# Altium schematic symbol library reg_linear_LDO_highPSRR.SchLib: 61 symbols
Pins are listed as number, name and electrical type; pins without a type are passive.

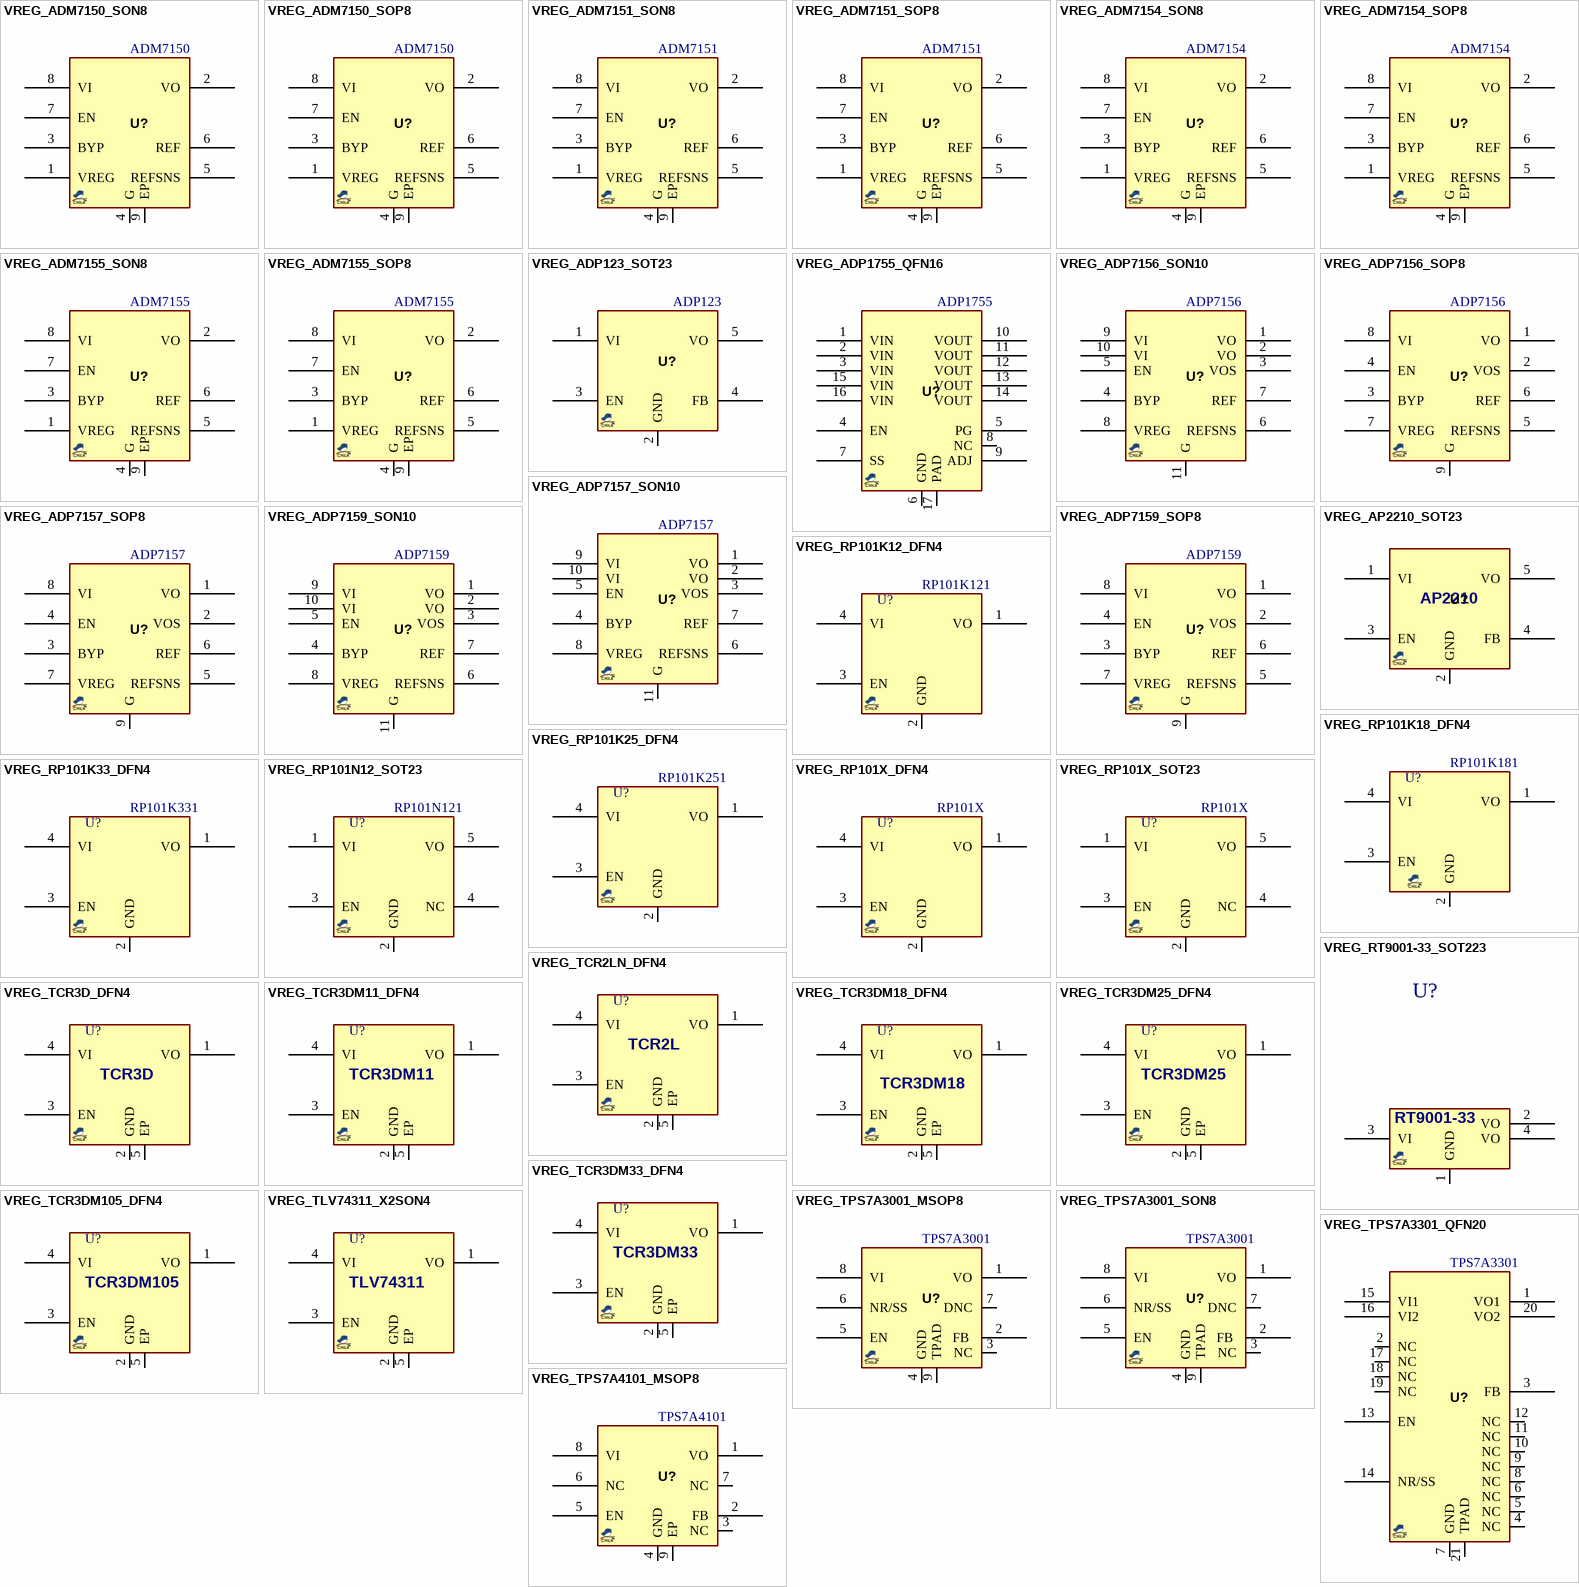
[diagram p0: symbols VREG_ADM7150_SON8 to VREG_TPS7A4101_MSOP8]

## VREG_ADM7150_SON8
designator U?, comment ADM7150
REG, Linear, 0.8A, 90dB PSRR, 1µV Noise, LFCSP-8; PARAM2: 4.5~16Vin, 1.8Vout fix; PARAM: 90dB PSRR, 1µV Noise, 0.8A; MANF: Analog Devices; MANF_P#: ADM7150ACPZ-1.8; MANF_P#2: ADM7150ACPZ-3.3; MANF_P#3: ADM7150ACPZ-4.5; MANF_P#4: ADM7150ACPZ-4.8; MANF_P#5: ADM7150ACPZ-5.0; VALUE: ADM7150
footprint SON50_8T_3X3 (WSON-8, DRG, 3X3mm 0.5mm pitch with Thermal pad)
pins: 1 VREG, 2 VO, 3 BYP, 4 G, 5 REFSNS, 6 REF, 7 EN, 8 VI, 9 EP

## VREG_ADM7150_SOP8
designator U?, comment ADM7150
REG, Linear, 0.8A, 90dB PSRR, 1µV Noise, SOP-8; PARAM2: 4.5~16Vin, 1.8Vout fix; PARAM: 90dB PSRR, 1µV Noise, 0.8A; MANF: Analog Devices; MANF_P#: ADM7150ARDZ-1.8; MANF_P#2: ADM7150ARDZ-2.8; MANF_P#3: ADM7150ARDZ-3.0; MANF_P#4: ADM7150ARDZ-3.3; MANF_P#5: ADM7150ARDZ-5.0; VALUE: ADM7150
footprint SO_8T (SOP-8, 5x3.9mm body 0.5mm pitch, DDA, SO PowerPAD)
pins: 1 VREG, 2 VO, 3 BYP, 4 G, 5 REFSNS, 6 REF, 7 EN, 8 VI, 9 EP

## VREG_ADM7151_SON8
designator U?, comment ADM7151
REG, Linear, 0.8A, 90dB PSRR, 1µV Noise, LFCSP-8; PARAM2: 4.5~16Vin, 1.5~5.1Vout; PARAM: 90dB PSRR, 1µV Noise, 0.8A; MANF: Analog Devices; MANF_P#: ADM7151ACPZ-04; PRICE: 8.4$; VALUE: ADM7151
footprint SON50_8T_3X3 (WSON-8, DRG, 3X3mm 0.5mm pitch with Thermal pad)
pins: 1 VREG, 2 VO, 3 BYP, 4 G, 5 REFSNS, 6 REF, 7 EN, 8 VI, 9 EP

## VREG_ADM7151_SOP8
designator U?, comment ADM7151
REG, Linear, 0.8A, 90dB PSRR, 1µV Noise, SOP-8; PARAM2: 4.5~16Vin, 1.5~5.1Vout; PARAM: 90dB PSRR, 1µV Noise, 0.8A; MANF: Analog Devices; MANF_P#: ADM7151ARDZ-04; PRICE: 8.4$; VALUE: ADM7151
footprint SO_8T (SOP-8, 5x3.9mm body 0.5mm pitch, DDA, SO PowerPAD)
pins: 1 VREG, 2 VO, 3 BYP, 4 G, 5 REFSNS, 6 REF, 7 EN, 8 VI, 9 EP

## VREG_ADM7154_SON8
designator U?, comment ADM7154
REG, Linear, 0.6A, 90dB PSRR, 1µV Noise, LFCSP-8; PARAM2: 2.3~5.5VIN, 1.2Vout fix; PARAM: 90dB PSRR, 1µV Noise, 0.6A; MANF: Analog Devices; MANF_P#: ADM7154ACPZ-1.2; MANF_P#2: ADM7154ACPZ-1.8; MANF_P#3: ADM7154ACPZ-2.5; MANF_P#4: ADM7154ACPZ-2.8; MANF_P#5: ADM7154ACPZ-3.0; MANF_P#6: ADM7154ACPZ-3.3; VALUE: ADM7154
footprint SON50_8T_3X3 (WSON-8, DRG, LFCSP_WD, 3X3mm 0.5mm pitch with Thermal pad)
pins: 1 VREG, 2 VO, 3 BYP, 4 G, 5 REFSNS, 6 REF, 7 EN, 8 VI, 9 EP

## VREG_ADM7154_SOP8
designator U?, comment ADM7154
REG, Linear, 0.6A, 90dB PSRR, 1µV Noise, SOP-8; PARAM2: 2.3~5.5VIN, 1.2Vout fix; PARAM: 90dB PSRR, 1µV Noise, 0.6A; MANF: Analog Devices; MANF_P#4: ADM7154ARDZ-2.8; MANF_P#2: ADM7154ARDZ-1.8; MANF_P#6: ADM7154ARDZ-3.3; MANF_P#3: ADM7154ARDZ-2.5; MANF_P#5: ADM7154ARDZ-3.0; MANF_P#: ADM7154ARDZ-1.2; VALUE: ADM7154
footprint SO_8T (SOP-8, 5x3.9mm body 0.5mm pitch, DDA, SO PowerPAD)
pins: 1 VREG, 2 VO, 3 BYP, 4 G, 5 REFSNS, 6 REF, 7 EN, 8 VI, 9 EP

## VREG_ADM7155_SON8
designator U?, comment ADM7155
REG, Linear, 0.6A, 90dB PSRR, 1µV Noise, LFCSP-8; PARAM2: 2.3~5.5VIN, 1.2~3.4VOUT; PARAM: 90dB PSRR, 1µV Noise, 0.6A; MANF: Analog Devices; MANF_P#: ADM7155ARDZ; VALUE: ADM7155
footprint SON50_8T_3X3 (WSON-8, DRG, LFCSP_WD, 3X3mm 0.5mm pitch with Thermal pad)
pins: 1 VREG, 2 VO, 3 BYP, 4 G, 5 REFSNS, 6 REF, 7 EN, 8 VI, 9 EP

## VREG_ADM7155_SOP8
designator U?, comment ADM7155
REG, Linear, 0.6A, 90dB PSRR, 1µV Noise, SOP-8; PARAM2: 2.3~5.5VIN, 1.2~3.4VOUT; PARAM: 90dB PSRR, 1µV Noise, 0.6A; MANF: Analog Devices; MANF_P#: ADM7155ARDZ; VALUE: ADM7155
footprint SO_8T (SOP-8, 5x3.9mm body 0.5mm pitch, DDA, SO PowerPAD)
pins: 1 VREG, 2 VO, 3 BYP, 4 G, 5 REFSNS, 6 REF, 7 EN, 8 VI, 9 EP

## VREG_ADP123_SOT23
designator U?, comment ADP123
REG, Linear, LDO0.085V, 0.3A, SOT23-5 SMD; PARAM2: 60dB PSRR@100KHz; MANF: AD; MANF_P#: ADP123AUJZ; PARAM: LDO0.085V, 0.3A; VALUE: ADP123
footprint SOT23_5 (SOT-23-5, SOT25, SOT-25, DBV(R-PDSO-G5), TSOT23-5, SC-74A, SOT23-5, S5-T (LINEAR), MO-178AA, MO-193AB(JEDEC), MF05A (NS), TSOP-6(ON), UJ-5 (AD))
pins: 1 VI, 2 GND, 3 EN, 4 FB, 5 VO

## VREG_ADP1755_QFN16
designator U?, comment ADP1755
REG, Linear, 1.2A, 65dB PSRR, 23µV Noise, LFCSP-16; PARAM2: 1.6~3.6Vin, 0.75~3.3Vout; PARAM: 65dBPSRR@1K, 23µV Noise, 1.2A; MANF: Analog Devices; MANF_P#: ADP1755ACPZ; PRICE: 2.7$; VALUE: ADP1755
footprint QFN65_16T (MO-220 VGGC, MO-220 WGGC-4(JEDEC), 4X4mm, 0.65mm)
pins: 1 VIN, 2 VIN, 3 VIN, 4 EN, 5 PG, 6 GND, 7 SS, 8 NC, 9 ADJ, 10 VOUT, 11 VOUT, 12 VOUT, 13 VOUT, 14 VOUT, 15 VIN, 16 VIN, 17 PAD

## VREG_ADP7156_SON10
designator U?, comment ADP7156
REG, Linear, 1.2A, 80dB PSRR, 1µV Noise, LFCSP-10; PARAM2: 2.3~5.5Vin, 1.2Vout fix; PARAM: 80dB PSRR, 1µV Noise, 1.2A; MANF: Analog Devices; MANF_P#: ADP7156ACPZ-1.2; MANF_P#3: ADP7156ACPZ-2.0; MANF_P#2: ADP7156ACPZ-1.8; MANF_P#4: ADP7156ACPZ-2.5; MANF_P#5: ADP7156ACPZ-2.8; MANF_P#6: ADP7156ACPZ-3.0; MANF_P#7: ADP7156ACPZ-3.3; VALUE: ADP7156
footprint SON50_10T_3X3 (DRC SON(TI), 10 TDFN (MAXIM), 3X3mm, Pitch: 0.5mm with thermal pad)
pins: 1 VO, 2 VO, 3 VOS, 4 BYP, 5 EN, 6 REFSNS, 7 REF, 8 VREG, 9 VI, 10 VI, 11 G

## VREG_ADP7156_SOP8
designator U?, comment ADP7156
REG, Linear, 1.2A, 80dB PSRR, 1µV Noise, SOP-8; PARAM2: 2.3~5.5Vin, 1.2Vout fix; PARAM: 80dB PSRR, 1µV Noise, 1.2A; MANF: Analog Devices; MANF_P#: ADP7156ARDZ-1.2; MANF_P#3: ADP7156ARDZ-2.0; MANF_P#2: ADP7156ARDZ-1.8; MANF_P#4: ADP7156ARDZ-2.5; MANF_P#5: ADP7156ARDZ-2.8; MANF_P#6: ADP7156ARDZ-3.0; MANF_P#7: ADP7156ARDZ-3.3; VALUE: ADP7156
footprint SO_8T (SOP-8, 5x3.9mm body 0.5mm pitch, DDA, SO PowerPAD)
pins: 1 VO, 2 VOS, 3 BYP, 4 EN, 5 REFSNS, 6 REF, 7 VREG, 8 VI, 9 G

## VREG_ADP7157_SON10
designator U?, comment ADP7157
REG, Linear, 1.2A, 80dB PSRR, 1µV Noise, LFCSP-10; PARAM2: 2.3~5.5Vin, 1.2~3.3Vout; PARAM: 80dB PSRR, 1µV Noise, 1.2A; MANF: Analog Devices; MANF_P#: ADP7157ACPZ; PRICE: 3.8$; VALUE: ADP7157
footprint SON50_10T_3X3 (DRC SON(TI), 10 TDFN (MAXIM), 3X3mm, Pitch: 0.5mm with thermal pad)
pins: 1 VO, 2 VO, 3 VOS, 4 BYP, 5 EN, 6 REFSNS, 7 REF, 8 VREG, 9 VI, 10 VI, 11 G

## VREG_ADP7157_SOP8
designator U?, comment ADP7157
REG, Linear, 1.2A, 80dB PSRR, 1µV Noise, SOP-8; PARAM2: 2.3~5.5Vin, 1.2~3.3Vout; PARAM: 80dB PSRR, 1µV Noise, 1.2A; MANF: Analog Devices; MANF_P#: ADP7157ARDZ; PRICE: 7$; VALUE: ADP7157
footprint SO_8T (SOP-8, 5x3.9mm body 0.5mm pitch, DDA, SO PowerPAD)
pins: 1 VO, 2 VOS, 3 BYP, 4 EN, 5 REFSNS, 6 REF, 7 VREG, 8 VI, 9 G

## VREG_ADP7159_SON10
designator U?, comment ADP7159
REG, Linear, 2A, LDO0.2V, 68dB PSRR, 1µV Noise, LFCSP-10; PARAM2: 2.3~5.5Vin, 1.2~3.3Vout; PARAM: 68dB PSRR 1K~100KHz, 1µV Noise, 2A; MANF: Analog Devices; MANF_P#: ADP7159ACPZ; PRICE: 3.8$; VALUE: ADP7159
footprint SON50_10T_3X3 (DRC SON(TI), 10 TDFN (MAXIM), 3X3mm, Pitch: 0.5mm with thermal pad)
pins: 1 VO, 2 VO, 3 VOS, 4 BYP, 5 EN, 6 REFSNS, 7 REF, 8 VREG, 9 VI, 10 VI, 11 G

## VREG_ADP7159_SOP8
designator U?, comment ADP7159
REG, Linear, 2A, LDO0.2V, 68dB PSRR, 1µV Noise, SOP-8; PARAM2: 2.3~5.5Vin, 1.2~3.3Vout; PARAM: 80dB PSRR, 1µV Noise, 2A; MANF: Analog Devices; MANF_P#: ADP7159ARDZ; PRICE: 7$; VALUE: ADP7159
footprint SO_8T (SOP-8, 5x3.9mm body 0.5mm pitch, DDA, SO PowerPAD)
pins: 1 VO, 2 VOS, 3 BYP, 4 EN, 5 REFSNS, 6 REF, 7 VREG, 8 VI, 9 G

## VREG_AP2210_SOT23
designator U?, comment AP2210  (value not drawn)
REG, Linear, LDO0.25V, 0.3A, SOT23-5 SMD; PARAM2: 2.5~13.2VIN, 60dB PSRR@1KHz; PARAM: LDO0.2V, 0.3A; MANF: DIODES; MANF_P#: AP2210K-ADJTRG1; PRICE: 0.47$; VALUE: AP2210
footprint SOT23_5 (SOT-23-5, SOT25, SOT-25, DBV(R-PDSO-G5), TSOT23-5, SC-74A, SOT23-5, S5-T (LINEAR), MO-178AA, MO-193AB(JEDEC), MF05A (NS), TSOP-6(ON), UJ-5 (AD))
pins: 1 VI, 2 GND, 3 EN, 4 FB, 5 VO

## VREG_RP101K12_DFN4
designator U?, comment RP101K121
REG, Linear, LDO0.13V, Fixed, 300mA, VIN1.7~5.25V, VOUT1.2V,DFN(PLP)1612-4; MANF: RICOH; MANF_P#: RP101K121, RP101K122; PARAM2: 75dB PSRR; PARAM: LDO0.13V, Fixed 1.2V, 300mA; PRICE: $0.8; VALUE: RP101K121
footprint SON65_4T_1216 (DFN4-1216-0.65, DFN(PLP)1612-4, 1.2X1.6mm, 0.65mm pitch)
pins: 1 VO, 2 GND, 3 EN, 4 VI

## VREG_RP101K18_DFN4
designator U?, comment RP101K181
REG, Linear, LDO0.13V, Fixed, 300mA, VIN1.7~5.25V, VOUT1.8V,DFN(PLP)1612-4; MANF: RICOH; MANF_P#: RP101K181D, RP101K182D; PARAM2: 75dB PSRR; PARAM: LDO0.13V, Fixed 1.8V, 300mA; PRICE: $0.8; VALUE: RP101K181
footprint SON65_4T_1216 (DFN4-1216-0.65, DFN(PLP)1612-4, 1.2X1.6mm, 0.65mm pitch)
pins: 1 VO, 2 GND, 3 EN, 4 VI

## VREG_RP101K25_DFN4
designator U?, comment RP101K251
REG, Linear, LDO0.13V, Fixed, 300mA, VIN1.7~5.25V, VOUT1.8V,DFN(PLP)1612-4; MANF: RICOH; MANF_P#: RP101K251, RP101K252; PARAM2: 75dB PSRR; PARAM: LDO0.13V, Fixed 1.8V, 300mA; PRICE: $0.8; VALUE: RP101K251
footprint SON65_4T_1216 (DFN4-1216-0.65, DFN(PLP)1612-4, 1.2X1.6mm, 0.65mm pitch)
pins: 1 VO, 2 GND, 3 EN, 4 VI

## VREG_RP101K33_DFN4
designator U?, comment RP101K331
REG, Linear, LDO0.13V, Fixed, 300mA, VIN1.7~5.25V, VOUT1.8V,DFN(PLP)1612-4; MANF: RICOH; MANF_P#: RP101K331, RP101K332; PARAM2: 75dB PSRR; PARAM: LDO0.13V, Fixed 1.8V, 300mA; PRICE: $0.8; VALUE: RP101K331
footprint SON65_4T_1216 (DFN4-1216-0.65, DFN(PLP)1612-4, 1.2X1.6mm, 0.65mm pitch)
pins: 1 VO, 2 GND, 3 EN, 4 VI

## VREG_RP101N12_SOT23
designator U?, comment RP101N121
REG, Linear, LDO0.13V, Fixed, 300mA, VIN1.7~5.25V, VOUT1.2~3.3V,DFN(PLP)1612-4; MANF: RICOH; PARAM: LDO0.13V, Fixed1.2V, 300mA; MANF_P#: RP101N121; VALUE: RP101N121
footprint SOT23_5 (SOT-23-5, SOT25, SOT-25, DBV(R-PDSO-G5), TSOT23-5, SC-74A, SOT23-5, S5-T (LINEAR), MO-178AA, MO-193AB(JEDEC), MF05A (NS), TSOP-6(ON), UJ-5 (AD))
pins: 1 VI, 2 GND, 3 EN, 4 NC, 5 VO

## VREG_RP101X_DFN4
designator U?, comment RP101X
REG, Linear, LDO0.13V, Fixed, 300mA, VIN1.7~5.25V, VOUT1.2~3.3V,DFN(PLP)1612-4; MANF: RICOH; PARAM2: 75dB PSRR; MANF_P#: RP101X; PARAM: LDO0.13V, Fixed, 300mA; VALUE: RP101X
footprint SON65_4T_1216 (DFN4-1216-0.65, DFN(PLP)1612-4, 1.2X1.6mm, 0.65mm pitch)
pins: 1 VO, 2 GND, 3 EN, 4 VI

## VREG_RP101X_SOT23
designator U?, comment RP101X
REG, Linear, LDO0.13V, Fixed, 300mA, VIN1.7~5.25V, VOUT1.2~3.3V,DFN(PLP)1612-4; MANF: RICOH; MANF_P#: RP101X; PARAM: LDO0.13V, Fixed, 300mA; VALUE: RP101X
footprint SOT23_5 (SOT-23-5, SOT25, SOT-25, DBV(R-PDSO-G5), TSOT23-5, SC-74A, SOT23-5, S5-T (LINEAR), MO-178AA, MO-193AB(JEDEC), MF05A (NS), TSOP-6(ON), UJ-5 (AD))
pins: 1 VI, 2 GND, 3 EN, 4 NC, 5 VO

## VREG_RT9001-33_SOT223
designator U?, comment RT9001-33  (value not drawn)
REG, Linear, LDO0.58V, 0.6A, 3.3V FIXED, SOT223; MANF_P#: RT9001-33GG; MANF: RICHTEK; PARAM2: LDO0.58V, 3~5.5VIN, 3.3Vout; PARAM: 0.6A, -55dBpsrr@1KHz, -40~125°C; PRICE: 1.7t@Lion; DESC: http://www.lionelectronic.ir/content/rt9001-33gg; VALUE: RT9001-33
footprint SOT223_4 (SOT223, 4-Leads, Body 6.5x3.5mm, Pitch 2.30mm)
pins: 1 GND, 2 VO, 3 VI, 4 VO

## VREG_TCR2LN_DFN4
designator U?, comment TCR2L  (value not drawn)
REG, Linear, LDO0.25V, Fixed, 150mA, VIN2~5.25V, VOUT0.8~3.6V,DFN4 0.8X0.8mm; MANF: TOSHIBA; MANF_P#: TCR2LN10, TCR2LN12, TCR2LN15, TCR2LN18, TCR2LN25, TCR2LN33; PARAM2: 70dB PSRR; PARAM: LDO0.25V, Fixed, 150mA; PRICE: $0.3; VALUE: TCR2L
footprint SON50_4T_0808 (SDFN-4, 0.8X0.8mm, 0.48mm pitch)
pins: 1 VO, 2 GND, 3 EN, 4 VI, 5 EP

## VREG_TCR3D_DFN4
designator U?, comment TCR3D  (value not drawn)
REG, Linear, LDO0.3V, Fixed, 300mA, VIN2~5.25V, VOUT1~4.5V,DFN4 1X1mm; MANF: TOSHIBA; MANF_P#: TCR3DM10, TCR3DM105, TCR3DM12, TCR3DM15, TCR3DM18, TCR3DM25, TCR3DM33; PARAM2: 70dB PSRR; PARAM: LDO0.2V, Fixed, 300mA; PRICE: $0.3; VALUE: TCR3D
footprint SON65_4T_1010 (DFN(PLP)1010-4, DFN1010C-4, 1.0X1.0mm, 0.65mm pitch)
pins: 1 VO, 2 GND, 3 EN, 4 VI, 5 EP

## VREG_TCR3DM11_DFN4
designator U?, comment TCR3DM11  (value not drawn)
REG, Linear, LDO0.3V, Fixed, 300mA, VIN2~5.25V, VOUT1~4.5V,DFN4 1X1mm; MANF: TOSHIBA; MANF_P#: TCR3DM11,LF; PARAM2: LDO0.2V, Fixed1.1V; PARAM: 300mA, 70dB PSRR, -40~85oC; PRICE: $0.3; VALUE: TCR3DM11
footprint SON65_4T_1010 (DFN(PLP)1010-4, DFN1010C-4, 1.0X1.0mm, 0.65mm pitch)
pins: 1 VO, 2 GND, 3 EN, 4 VI, 5 EP

## VREG_TCR3DM18_DFN4
designator U?, comment TCR3DM18  (value not drawn)
REG, Linear, LDO0.3V, Fixed, 300mA, VIN2~5.25V, VOUT1.8V,DFN4 1X1mm; MANF: TOSHIBA; PARAM2: 70dB PSRR; PARAM: LDO0.2V, Fixed, 300mA; MANF_P#: TCR3DM18; PRICE: $0.3; VALUE: TCR3DM18
footprint SON65_4T_1010 (DFN(PLP)1010-4, DFN1010C-4, 1.0X1.0mm, 0.65mm pitch)
pins: 1 VO, 2 GND, 3 EN, 4 VI, 5 EP

## VREG_TCR3DM25_DFN4
designator U?, comment TCR3DM25  (value not drawn)
REG, Linear, LDO0.3V, Fixed, 300mA, VIN2~5.25V, VOUT1~4.5V,DFN4 1X1mm; MANF: TOSHIBA; MANF_P#: TCR3DM25,LF; PARAM2: LDO0.2V, Fixed2.5V; PARAM: 300mA, 70dB PSRR, -40~85oC; PRICE: $0.3; VALUE: TCR3DM25
footprint SON65_4T_1010 (DFN(PLP)1010-4, DFN1010C-4, 1.0X1.0mm, 0.65mm pitch)
pins: 1 VO, 2 GND, 3 EN, 4 VI, 5 EP

## VREG_TCR3DM33_DFN4
designator U?, comment TCR3DM33  (value not drawn)
REG, Linear, LDO0.3V, Fixed, 300mA, VIN2~5.25V, VOUT1~4.5V,DFN4 1X1mm; MANF: TOSHIBA; PARAM2: LDO0.2V, Fixed3.3V; PARAM: 300mA, 70dB PSRR, -40~85oC; MANF_P#: TCR3DM33; PRICE: $0.3; VALUE: TCR3DM33
footprint SON65_4T_1010 (DFN(PLP)1010-4, DFN1010C-4, 1.0X1.0mm, 0.65mm pitch)
pins: 1 VO, 2 GND, 3 EN, 4 VI, 5 EP

## VREG_TCR3DM105_DFN4
designator U?, comment TCR3DM105  (value not drawn)
REG, Linear, LDO0.3V, Fixed, 300mA, VIN2~5.25V, VOUT1~4.5V,DFN4 1X1mm; MANF: TOSHIBA; MANF_P#: TCR3DM105,LF; PARAM2: LDO0.2V, Fixed1.05V; PARAM: 300mA, 70dB PSRR, -40~85oC; PRICE: $0.3; VALUE: TCR3DM105
footprint SON65_4T_1010 (DFN(PLP)1010-4, DFN1010C-4, 1.0X1.0mm, 0.65mm pitch)
pins: 1 VO, 2 GND, 3 EN, 4 VI, 5 EP

## VREG_TLV74311_X2SON4
designator U?, comment TLV74311  (value not drawn)
REG, Linear, LDO0.12V, Fixed, 300mA, VIN1.4~5.5V, VOUT1~5.5V,X2SON4 1X1mm; MANF: Texas Instruments; MANF_P#: TLV74311PDQN; PARAM2: 1.4~5.5Vin, LDO0.12V, Fixed1.1V; PARAM: 300mA, 50dB PSRR, -40~125°C; PRICE: $0.45; VALUE: TLV74311
footprint SON65_4T_1010 (DFN(PLP)1010-4, DFN1010C-4, 1.0X1.0mm, 0.65mm pitch)
pins: 1 VO, 2 GND, 3 EN, 4 VI, 5 EP

## VREG_TPS7A3001_MSOP8
designator U?, comment TPS7A3001
REG, Linear, Negative LDO0.21V, 0.2A, -3~-35VIN, HVSSOP-8; PARAM: LDO0.21V, 0.2A, -1.18~-33V; MANF: Texas Instruments; MANF_P#: TPS7A3001DGN; PARAM2: -3~-35VIN; PRICE: 3.5$; VALUE: TPS7A3001
footprint SOG65_8T_3
pins: 1 VO, 2 FB , 3 NC, 4 GND , 5 EN , 6 NR/SS , 7 DNC, 8 VI, 9 TPAD

## VREG_TPS7A3001_SON8
designator U?, comment TPS7A3001
REG, Linear, Negative LDO0.21V, 0.2A, -3~-35VIN, SON-8; PARAM: LDO0.21V, 0.2A, -1.18~-33V; MANF: Texas Instruments; MANF_P#: TPS7A3001DRB; PARAM2: -3~-35VIN; PRICE: 3.5$; VALUE: TPS7A3001
footprint SON65_8T_3X3 (DRB PVSON8 (TI), 3.00x3.00mm, Pitch 0.65mm)
pins: 1 VO, 2 FB , 3 NC, 4 GND , 5 EN , 6 NR/SS , 7 DNC, 8 VI, 9 TPAD

## VREG_TPS7A3301_QFN20
designator U?, comment TPS7A3301
REG, Linear, Negative LDO0.3V RF, 1A, -3~-36VIN, QFN-20; PARAM: LDO0.3V, 1A, -1.2~-33VOUT; MANF: Texas Instruments; MANF_P#: TPS7A3301RGW; PARAM2: -3~-36VIN; PRICE: 6$; VALUE: TPS7A3301
footprint QFN65_20T (QFN, 20-Leads, Body 5.00x5.00mm, Pitch 0.65mm, Thermal Pad 3.15x3.15mm, MO-220(JEDEC), RGW/S-PVQFN-N20 (TI))
pins: 1 VO1, 2 NC, 3 FB, 4 NC, 5 NC, 6 NC, 7 GND, 8 NC, 9 NC, 10 NC, 11 NC, 12 NC, 13 EN, 14 NR/SS, 15 VI1, 16 VI2, 17 NC, 18 NC, 19 NC, 20 VO2, 21 TPAD

## VREG_TPS7A4101_MSOP8
designator U?, comment TPS7A4101
REG, Linear, LDO0.3V, 0.05A, 7~50VIN, MSOP-8; PARAM2: 7~50VIN, -40~125°C; MANF: Texas Instruments; MANF_P#: TPS7A4101DGN; PARAM: LDO0.3V, 0.05A; PRICE: 55t@lion.ir; VALUE: TPS7A4101
footprint SOG65_8T_3
pins: 1 VO, 2 FB, 3 NC, 4 GND, 5 EN, 6 NC, 7 NC, 8 VI, 9 EP

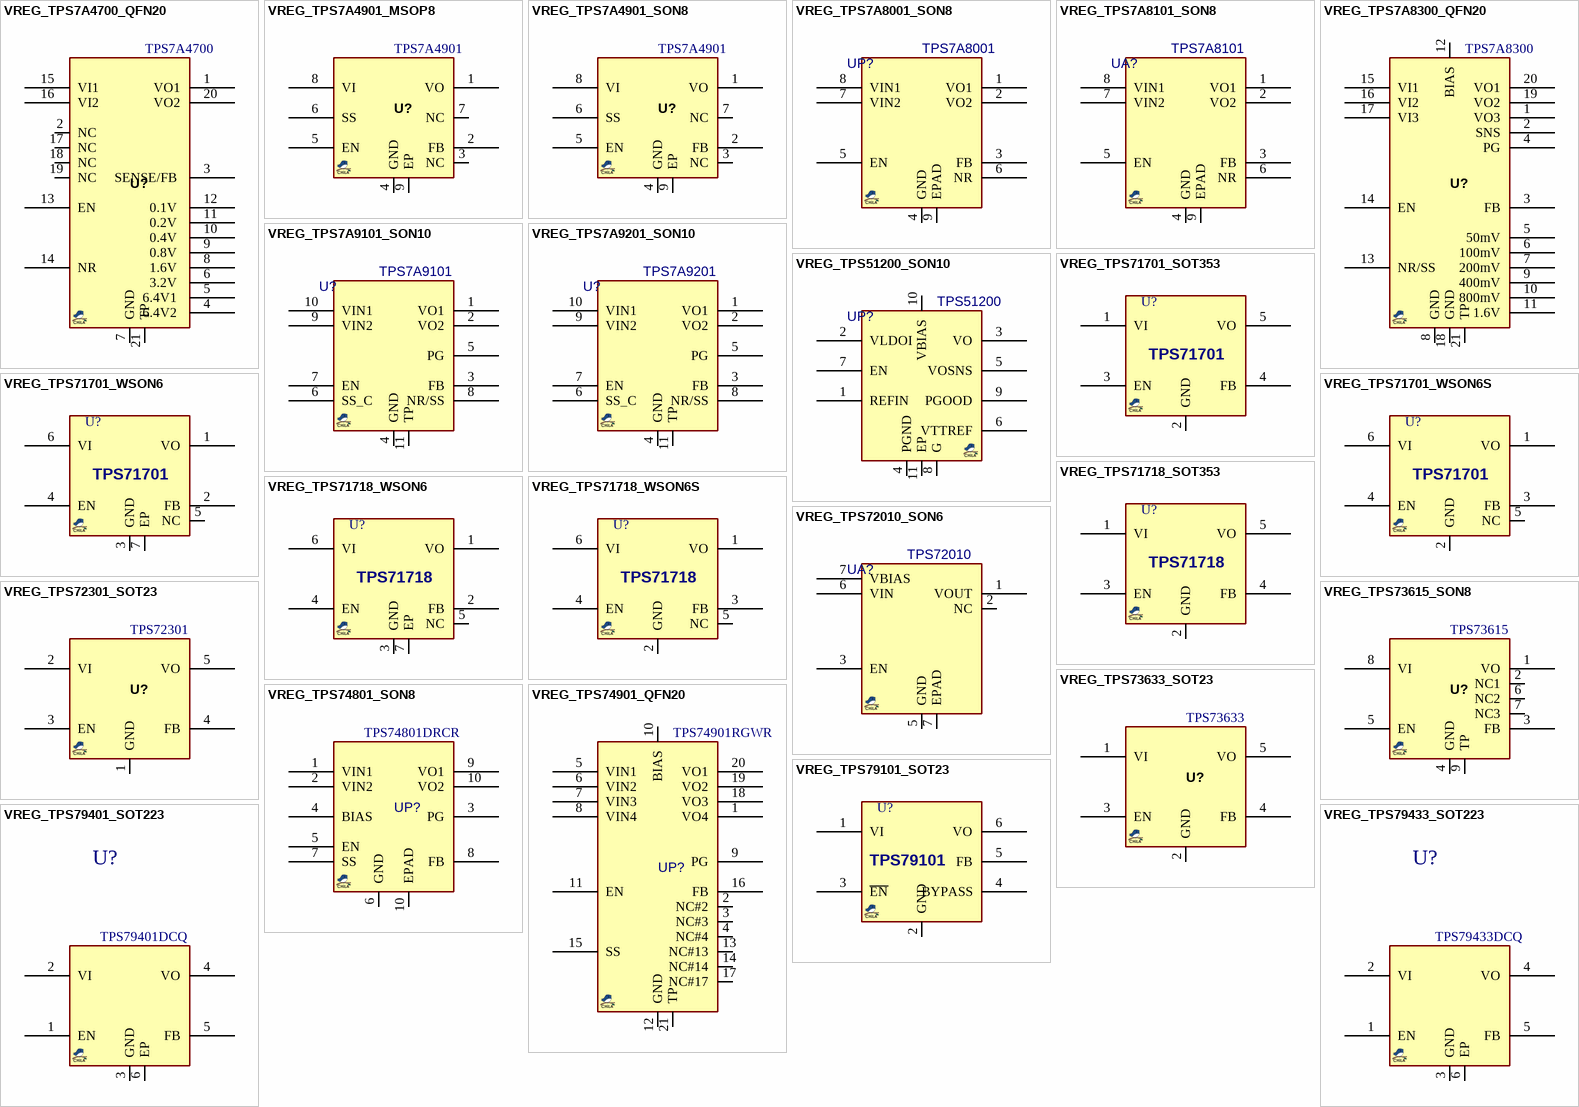
[diagram p1: symbols VREG_TPS7A4700_QFN20 to VREG_TPS79433_SOT223]

## VREG_TPS7A4700_QFN20
designator U?, comment TPS7A4700
REG, Linear, LDO0.3V RF, 1A, QFN-20; PARAM2: 3~36VIN; PARAM: LDO0.3V, 1A, 1.4~20.5VOUT; MANF: Texas Instruments; MANF_P#: TPS7A4700RGW; PRICE: 5$; VALUE: TPS7A4700
footprint QFN65_20T (QFN, 20-Leads, Body 5.00x5.00mm, Pitch 0.65mm, Thermal Pad 3.15x3.15mm, MO-220(JEDEC), RGW/S-PVQFN-N20 (TI))
pins: 1 VO1, 2 NC , 3 SENSE/FB , 4 6.4V2 , 5 6.4V1 , 6 3.2V , 7 GND , 8 1.6V , 9 0.8V , 10 0.4V , 11 0.2V , 12 0.1V , 13 EN , 14 NR , 15 VI1, 16 VI2, 17 NC , 18 NC , 19 NC , 20 VO2, 21 TP

## VREG_TPS7A4901_MSOP8
designator U?, comment TPS7A4901
REG, Linear, LDO0.3V, 0.15A, 3~36VIN, MSOP-8; PARAM2: 3~36VIN, -40~125°C; MANF: Texas Instruments; MANF_P#: TPS7A4901DGN; PARAM: LDO0.3V, 0.15A; PRICE: 55t@lion.ir; VALUE: TPS7A4901
footprint SOG65_8T_3
pins: 1 VO, 2 FB, 3 NC, 4 GND, 5 EN, 6 SS, 7 NC, 8 VI, 9 EP

## VREG_TPS7A4901_SON8
designator U?, comment TPS7A4901
REG, Linear, LDO0.3V, 0.15A, 3~36VIN, MSOP-8; PARAM2: 3~36VIN, -40~125°C; MANF: Texas Instruments; MANF_P#: TPS7A4901DRB; PARAM: LDO0.3V, 0.15A; VALUE: TPS7A4901
footprint SON65_8T_3X3 (DRB PVSON8 (TI), 3.00x3.00mm, Pitch 0.65mm)
pins: 1 VO, 2 FB, 3 NC, 4 GND, 5 EN, 6 SS, 7 NC, 8 VI, 9 EP

## VREG_TPS7A8001_SON8
designator UP?, comment TPS7A8001
REG, Linear, LDO0.17V, 1A, SON-8; MANF: TI; DESC: Voltage Regulator, Linear, LDO0.17V, 1A, SON-8; MANF_P#: TPS7A8101DRBR; ASSEMBLY: ASSEMBLY; PARAM: LDO0.17V, 1A; PRICE: 3.2$; VALUE: TPS7A8001
footprint SON65_8T_3X3 (DRB PVSON8 (TI), 3.00x3.00mm, Pitch 0.65mm)
pins: 1 VO1 (power), 2 VO2 (power), 3 FB, 4 GND (power), 5 EN, 6 NR, 7 VIN2 (power), 8 VIN1 (power), 9 EPAD (power)

## VREG_TPS7A8101_SON8
designator UA?, comment TPS7A8101
REG, Linear, LDO0.17V, 1A, SON-8; MANF: TI; DESC: Voltage Regulator, Linear, LDO0.17V, 1A, SON-8; MANF_P#: TPS7A8101DRBR; PARAM2: 2.2~6.5VIN; ASSEMBLY: ASSEMBLY; PARAM: LDO0.17V, 1A; PRICE: 2.6$; VALUE: TPS7A8101
footprint SON65_8T_3X3 (DRB PVSON8 (TI), 3.00x3.00mm, Pitch 0.65mm)
pins: 1 VO1 (power), 2 VO2 (power), 3 FB, 4 GND (power), 5 EN, 6 NR, 7 VIN2 (power), 8 VIN1 (power), 9 EPAD (power)

## VREG_TPS7A8300_QFN20
designator U?, comment TPS7A8300
REG, Linear, LDO0.12V, 2A, QFN-20; MANF: Texas Instruments; MANF_P#: TPS7A8300RGW; PARAM: LDO0.12V, 2A; VALUE: TPS7A8300
footprint QFN65_20T (QFN, 20-Leads, Body 5.00x5.00mm, Pitch 0.65mm, Thermal Pad 3.15x3.15mm, MO-220(JEDEC), RGW/S-PVQFN-N20 (TI))
pins: 1 VO3 (power), 2 SNS, 3 FB, 4 PG, 5 50mV, 6 100mV, 7 200mV, 8 GND (power), 9 400mV, 10 800mV, 11 1.6V, 12 BIAS, 13 NR/SS, 14 EN, 15 VI1 (power), 16 VI2 (power), 17 VI3 (power), 18 GND (power), 19 VO2 (power), 20 VO1 (power), 21 TP

## VREG_TPS7A9101_SON10
designator U?, comment TPS7A9101
REG, Linear, LDO0.2V, 1A, 1.4~6.5Vin, 4.6uV noise, SON-10; MANF: TI; PARAM: LDO0.2V, 1A, 40dB@1MHz PSRR, 4.6uV noise; DESC: 40dB@1MHz PSRR, 4.6uV noise; MANF_P#: TPS7A9101DSK; PARAM2: 1.4~6.5Vin, Adj, -40~125oC; ASSEMBLY: ASSEMBLY; PRICE: 3.5$; VALUE: TPS7A9101
footprint SON50_10T_2P5 (DSK SON(TI), 2.5X2.5mm, Pitch: 0.5mm with thermal pad)
pins: 1 VO1 (power), 2 VO2 (power), 3 FB, 4 GND (power), 5 PG, 6 SS_C, 7 EN, 8 NR/SS, 9 VIN2 (power), 10 VIN1 (power), 11 TP (power)

## VREG_TPS7A9201_SON10
designator U?, comment TPS7A9201
REG, Linear, LDO0.2V, 2A, 1.4~6.5Vin, 4.6uV noise, SON-10; MANF: TI; PARAM: LDO0.2V, 2A, 40dB@1MHz PSRR, 4.6uV noise; DESC: 40dB@1MHz PSRR, 4.6uV noise; MANF_P#: TPS7A9201DSKR; PARAM2: 1.4~6.5Vin, Adj, -40~125oC; ASSEMBLY: ASSEMBLY; PRICE: 3.5$; VALUE: TPS7A9201
footprint SON50_10T_2P5 (DSK SON(TI), 2.5X2.5mm, Pitch: 0.5mm with thermal pad)
pins: 1 VO1 (power), 2 VO2 (power), 3 FB, 4 GND (power), 5 PG, 6 SS_C, 7 EN, 8 NR/SS, 9 VIN2 (power), 10 VIN1 (power), 11 TP (power)

## VREG_TPS51200_SON10
designator UP?, comment TPS51200
REG, Linear, LDO, 3A Sink/Source DDR Termination, SON-10; MANF: TI; PARAM2: VLDOIN 1.1~3.5V; MANF_P#: TPS51200DRCT; ASSEMBLY: ASSEMBLY; PARAM: 3A; PRICE: -; DESC: REG, Linear, LDO, 3A Sink/Source DDR Termination, SON-10; VALUE: TPS51200
footprint SON50_10T_3X3 (DRC SON(TI), 10 TDFN (MAXIM), 3X3mm, Pitch: 0.5mm with thermal pad)
pins: 1 REFIN, 2 VLDOI, 3 VO, 4 PGND, 5 VOSNS, 6 VTTREF, 7 EN, 8 G, 9 PGOOD, 10 VBIAS, 11 EP

## VREG_TPS71701_SOT353
designator U?, comment TPS71701  (value not drawn)
REG, Linear, LDO0.17V, Fixed, 150mA, VIN2.5~6.5V, VOUT0.9~6.5V, DCK; MANF: Texas Instruments; MANF_P#: TPS71701DCK; PARAM: LDO0.17V, Fixed, 150mA, -40~125°C; PARAM2: VIN2.5~6.5V, VOUT0.9~6.5V; PRICE: 1$; VALUE: TPS71701
footprint SOT353_5 (SC-88A, SC70-5, SOT-353, DCK (TI), 0.65mm pitch 2X1.3mm body)
pins: 1 VI, 2 GND, 3 EN, 4 FB, 5 VO

## VREG_TPS71701_WSON6
designator U?, comment TPS71701  (value not drawn)
REG, Linear, LDO0.17V, Fixed, 150mA, VIN2.5~6.5V, VOUT0.9~6.5V, DRV; MANF: Texas Instruments; MANF_P#: TPS71701QDRVRQ1; PARAM: LDO0.17V, Fixed, 150mA, -40~125°C; PARAM2: VIN2.5~6.5V, VOUT0.9~6.5V; PRICE: 1$; VALUE: TPS71701
footprint SON65_6T_2X2 (DRV PWSON DFN6 Pitch: 0.65mm 2x2x1.1mm)
pins: 1 VO, 2 FB, 3 GND, 4 EN, 5 NC, 6 VI, 7 EP

## VREG_TPS71701_WSON6S
designator U?, comment TPS71701  (value not drawn)
REG, Linear, LDO0.17V, Fixed, 150mA, VIN2.5~6.5V, VOUT0.9~6.5V, DSE; MANF: Texas Instruments; MANF_P#: TPS71701DSE; PARAM: LDO0.17V, Fixed, 150mA, -40~125°C; PARAM2: VIN2.5~6.5V, VOUT0.9~6.5V; PRICE: 1$; VALUE: TPS71701
footprint SON50_6T_S150 (WSON DSE,  6-Lead DFN Pitch: 0.5mm 1.5x1.5x0.8mm)
pins: 1 VO, 2 GND, 3 FB, 4 EN, 5 NC, 6 VI

## VREG_TPS71718_SOT353
designator U?, comment TPS71718  (value not drawn)
REG, Linear, LDO0.17V, Fixed, 150mA, VIN2.5~6.5V, DCK; MANF: Texas Instruments; MANF_P#: TPS71718DCK; PARAM2: VIN2.5~6.5V, 1.8VOUT; PARAM: LDO0.17V, Fixed, 150mA, -40~125°C; PRICE: 1$; VALUE: TPS71718
footprint SOT353_5 (SC-88A, SC70-5, SOT-353, DCK (TI), 0.65mm pitch 2X1.3mm body)
pins: 1 VI, 2 GND, 3 EN, 4 FB, 5 VO

## VREG_TPS71718_WSON6
designator U?, comment TPS71718  (value not drawn)
REG, Linear, LDO0.17V, Fixed, 150mA, VIN2.5~6.5V, DRV; MANF: Texas Instruments; MANF_P#: TPS71718QDRVRQ1; PARAM2: VIN2.5~6.5V, 1.8VOUT; PARAM: LDO0.17V, Fixed, 150mA, -40~125°C; PRICE: 1$; VALUE: TPS71718
footprint SON65_6T_2X2 (DRV PWSON DFN6 Pitch: 0.65mm 2x2x1.1mm)
pins: 1 VO, 2 FB, 3 GND, 4 EN, 5 NC, 6 VI, 7 EP

## VREG_TPS71718_WSON6S
designator U?, comment TPS71718  (value not drawn)
REG, Linear, LDO0.17V, Fixed, 150mA, VIN2.5~6.5V, VOUT0.9~6.5V, DSE; MANF: Texas Instruments; MANF_P#: TPS71718DSE; PARAM2: VIN2.5~6.5V, 1.8VOUT; PARAM: LDO0.17V, Fixed, 150mA, -40~125°C; PRICE: 1$; VALUE: TPS71718
footprint SON50_6T_S150 (WSON DSE,  6-Lead DFN Pitch: 0.5mm 1.5x1.5x0.8mm)
pins: 1 VO, 2 GND, 3 FB, 4 EN, 5 NC, 6 VI

## VREG_TPS72010_SON6
designator UA?, comment TPS72010
REG, Linear, LDO0.17V, 0.35A, SON-6; MANF: TI; PARAM: LDO0.17V, 0.35A, 80dB; MANF_P#: TPS72010DRV; PARAM2: 1.1~4.5VIN, Fixed1.0Vout; ASSEMBLY: ASSEMBLY; PRICE: 1$; VALUE: TPS72010
footprint SON65_6T_2X2 (DRV PWSON DFN6 Pitch: 0.65mm 2x2x1.1mm)
pins: 1 VOUT (power), 2 NC (power), 3 EN, 5 GND (power), 6 VIN (power), 7 EPAD (power), 7 VBIAS (power)

## VREG_TPS72301_SOT23
designator U?, comment TPS72301
REG, Linear, Negative LDO0.28V, 0.2A, -2.7~-10VIN, SOT23-5; PARAM2: -2.7~-10VIN, 65dB PSRR@1KHz; PARAM: LDO0.28V, 0.2A, -1.2~-10V, -40~125oC; MANF: Texas Instruments; MANF_P#: TPS72301DBVR; PRICE: 2.7$; VALUE: TPS72301
footprint SOT23_5 (SOT-23-5, SOT25, SOT-25, DBV(R-PDSO-G5), TSOT23-5, SC-74A, SOT23-5, S5-T (LINEAR), MO-178AA, MO-193AB(JEDEC), MF05A (NS), TSOP-5(ON), UJ-5 (AD), 0.95mm pitch 3X1.5mm)
pins: 1 GND , 2 VI, 3 EN , 4 FB, 5 VO

## VREG_TPS73615_SON8
designator U?, comment TPS73615
REG, Linear, LDO0.075V, 0.4A, 1.5V, SON-8 SMD; PARAM2: VIN 1.7V to 5.5V, VOUT 1.5V; MANF: Texas Instruments; MANF_P#: TPS73615DRB; PARAM: LDO0.075V, 0.4A; VALUE: TPS73615
footprint SON65_8T_3X3 (DRB PVSON8 (TI), 3.00x3.00mm, Pitch 0.65mm)
pins: 1 VO, 2 NC1, 3 FB (power), 4 GND (power), 5 EN, 6 NC2, 7 NC3, 8 VI, 9 TP (power)

## VREG_TPS73633_SOT23
designator U?, comment TPS73633
REG, Linear, LDO0.075V, 0.4A, 3.3V, SOT23-5 SMD; PARAM2: VIN 3.5V to 5.5V, VOUT 3.3V; MANF: Texas Instruments; MANF_P#: TPS73633DBVT; PARAM: LDO0.075V, 0.4A; VALUE: TPS73633
footprint SOT23_5 (SOT-23-5, SOT25, SOT-25, DBV(R-PDSO-G5), TSOT23-5, SC-74A, SOT23-5, S5-T (LINEAR), MO-178AA, MO-193AB(JEDEC), MF05A (NS), TSOP-6(ON), UJ-5 (AD))
pins: 1 VI, 2 GND, 3 EN, 4 FB, 5 VO

## VREG_TPS74801_SON8
designator UP?, comment TPS74801DRCR
REG, Linear, LDO0.06V, 1.5A, SON-10; MANF: TI; ASSEMBLY: ASSEMBLY; PARAM: LDO0.06V, 1.5A; PRICE: PRICE; DESC: REG, Linear, LDO0.06V, 1.5A, SON-10; MANF_P#: TPS74801DRCR; VALUE: TPS74801DRCR
footprint SON50_10T_3X3 (DRC SON(TI), 10 TDFN (MAXIM), 3X3mm, Pitch: 0.5mm with thermal pad)
pins: 1 VIN1, 2 VIN2, 3 PG, 4 BIAS, 5 EN, 6 GND, 7 SS, 8 FB, 9 VO1, 10 VO2, 10 EPAD

## VREG_TPS74901_QFN20
designator UP?, comment TPS74901RGWR
REG, Linear, LDO0.12V, 3A, VQFN-20; MANF: TI; ASSEMBLY: ASSEMBLY; PARAM: LDO0.12V, 3A; PRICE: PRICE; DESC: REG, Linear, LDO0.12V, 3A, VQFN-20; MANF_P#: TPS74901RGWR; VALUE: TPS74901RGWR
footprint QFN65_20T (QFN, 20-Leads, Body 5.00x5.00mm, Pitch 0.65mm, Thermal Pad 3.15x3.15mm, MO-220(JEDEC), RGW/S-PVQFN-N20 (TI))
pins: 1 VO4 (power), 2 NC#2, 3 NC#3, 4 NC#4, 5 VIN1 (power), 6 VIN2 (power), 7 VIN3 (power), 8 VIN4 (power), 9 PG, 10 BIAS, 11 EN, 12 GND, 13 NC#13, 14 NC#14, 15 SS, 16 FB, 17 NC#17, 18 VO3 (power), 19 VO2 (power), 20 VO1 (power), 21 TP

## VREG_TPS79101_SOT23
designator U?, comment TPS79101  (value not drawn)
REG, Linear, LDO0.09V, Adj, 100mA, VIN1.2~5.5V, 15uV noise, DCK; MANF: Texas Instruments; MANF_P#: TPS79101DBV; PARAM2: 1.2~5.5VIN, 1.1~5.4VOUT; PARAM: LDO0.09V, 100mA, 15uV noise, -40~125°C; PRICE: 1.3$; VALUE: TPS79101
footprint SOT23_6 (SOT-23-6, DDC, DBV, MICRO6, SOT-26, SOT457, SuperSOT6, TSOP-6, HMC313, MO-178AB, MO-193AA, TSOT)
pins: 1 VI, 2 GND, 3 ~{EN}, 4 BYPASS, 5 FB, 6 VO

## VREG_TPS79401_SOT223
designator U?, comment TPS79401DCQ
REG, Linear, LDO0.15V, 0.25A, 3.3V FIXED, SOT223; MANF_P#: TPS79401DCQR; MANF: TI; PRICE: 0.878; PARAM2: LDO0.15V, 0.25A, 3.3V; VALUE: TPS79401DCQ
footprint SOT223_6
pins: 1 EN, 2 VI, 3 GND, 4 VO, 5 FB, 6 EP

## VREG_TPS79433_SOT223
designator U?, comment TPS79433DCQ
REG, Linear, LDO0.15V, 0.25A, 3.3V FIXED, SOT223; MANF_P#: TPS79433DCQR; MANF: TI; PRICE: 0.878; PARAM2: LDO0.15V, 0.25A, 3.3V; VALUE: TPS79433DCQ
footprint SOT223_6
pins: 1 EN, 2 VI, 3 GND, 4 VO, 5 FB, 6 EP